# EAGLE library part 618062330923 (library Wurth_Elektronik_Electromechanic_Input-Output_Connectors_rev16a)
WR-DSUB Female High Density Angled PCB Connector with Hex Screw, 62 Pins=>Code : Con_I-O_DSUB_PCB_Female_w-screw_618062330923 <http://katalog.we-online.de/media/images/eican/Con_I-O_DSUB_PCB_Female_w-screw_6180xx330923_pf2.jpg> Details see: http://katalog.we-online.de/en/em/618_0xx_330_923 Created 2014-07-10, Karrer Zheng 2014 (C) Würth Elektronik
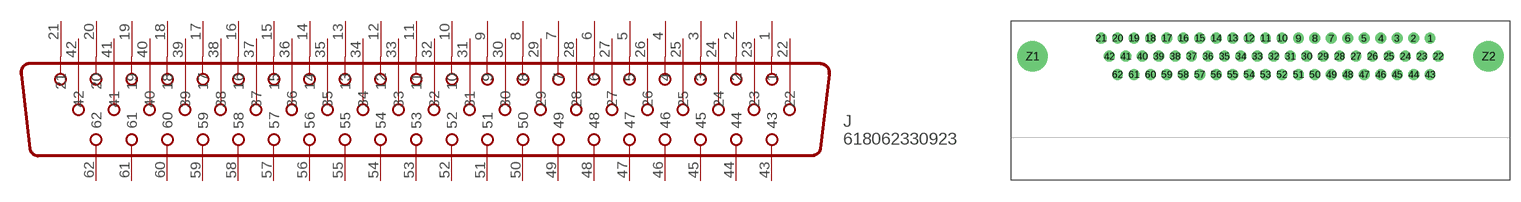
[diagram p59: symbol with the pads of 618062330923; footprint 618062330923]

Designator prefix J

## 618062330923  [618062330923]
1  1
2  2
3  3
4  4
5  5
6  6
7  7
8  8
9  9
10  10
11  11
12  12
13  13
14  14
15  15
16  16
17  17
18  18
19  19
20  20
21  21
22  22
23  23
24  24
25  25
26  26
27  27
28  28
29  29
30  30
31  31
32  32
33  33
34  34
35  35
36  36
37  37
38  38
39  39
40  40
41  41
42  42
43  43
44  44
45  45
46  46
47  47
48  48
49  49
50  50
51  51
52  52
53  53
54  54
55  55
56  56
57  57
58  58
59  59
60  60
61  61
62  62

## Footprint 618062330923 (pad centres in mm)
WR-DSUB Female High Density Angled PCB Connector with Hex Screw, 62 Pins
drill 1: 1 23.605,2.54; 2 21.315,2.54; 3 19.025,2.54; 4 16.735,2.54; 5 14.445,2.54; 6 12.155,2.54; 7 9.865,2.54; 8 7.575,2.54; 9 5.285,2.54; 10 2.995,2.54; 11 0.705,2.54; 12 -1.585,2.54; 13 -3.875,2.54; 14 -6.165,2.54; 15 -8.455,2.54; 16 -10.745,2.54; 17 -13.035,2.54; 18 -15.325,2.54; 19 -17.615,2.54; 20 -19.905,2.54; 21 -22.195,2.54; 22 24.75,0; 23 22.46,0; 24 20.17,0; 25 17.88,0; 26 15.59,0; 27 13.3,0; 28 11.01,0; 29 8.72,0; 30 6.43,0; 31 4.14,0; 32 1.85,0; 33 -0.44,0; 34 -2.73,0; 35 -5.02,0; 36 -7.31,0; 37 -9.6,0; 38 -11.89,0; 39 -14.18,0; 40 -16.47,0; 41 -18.76,0; 42 -21.05,0; 43 23.605,-2.54; 44 21.315,-2.54; 45 19.025,-2.54; 46 16.735,-2.54; 47 14.445,-2.54; 48 12.155,-2.54; 49 9.865,-2.54; 50 7.575,-2.54; 51 5.285,-2.54; 52 2.995,-2.54; 53 0.705,-2.54; 54 -1.585,-2.54; 55 -3.875,-2.54; 56 -6.165,-2.54; 57 -8.455,-2.54; 58 -10.745,-2.54; 59 -13.035,-2.54; 60 -15.325,-2.54; 61 -17.615,-2.54; 62 -19.905,-2.54
drill 3.2: Z1 -31.75,0; Z2 31.75,0